# Altium footprint library Demo_BIT.PcbLib: 58 footprints (part 3 of 4)
Each footprint in its own frame and in the unit in brackets; x right, y up, seen from the top. Pads: shape width x height; smd on the part's side, far side on the other; paste and mask are expansions set on the pad; w line width, h text height; cw(c..) or ccw(c..) is an arc to the next point about the centre after c.
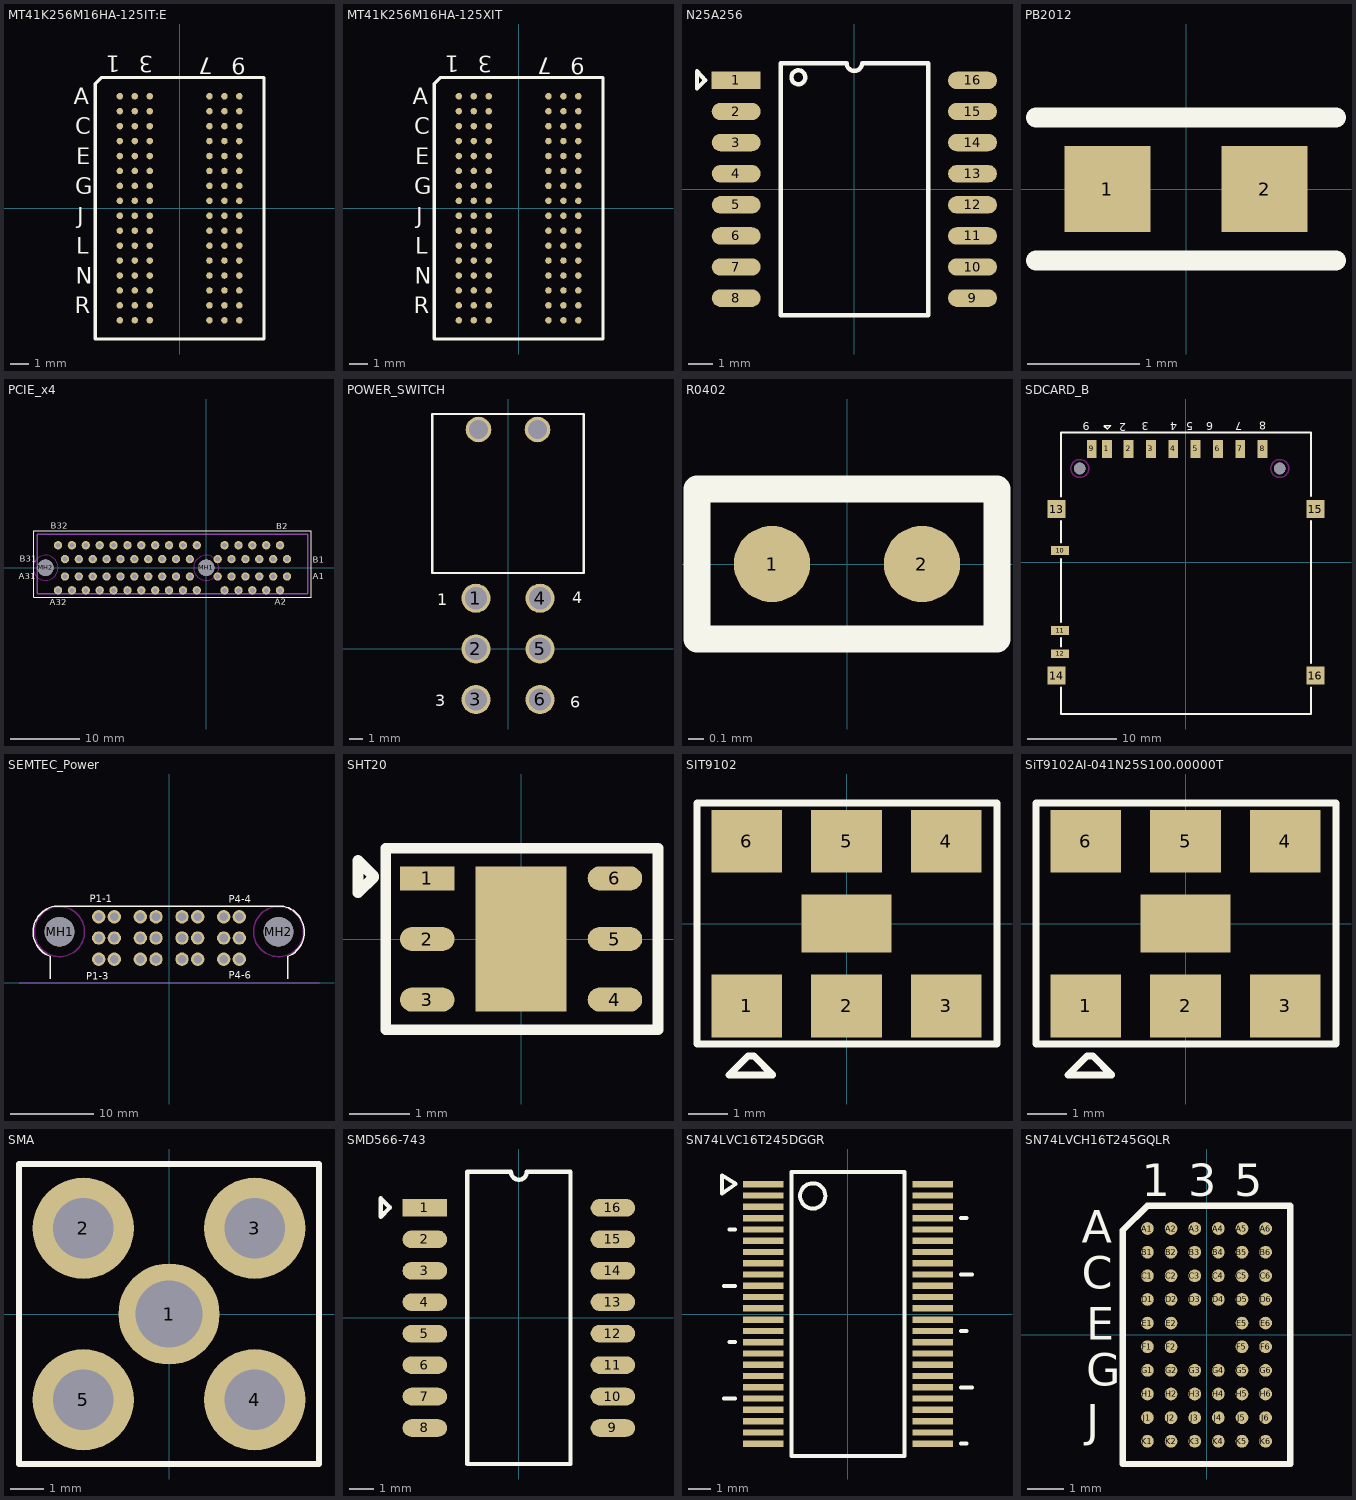
[diagram p2: the footprints below, top view; thin cyan lines are the x and y axes]

## MT41K256M16HA-125IT:E [mm]
height 1.1
pads (96):
  round 0.35 smd: A1(-3.2,6) A2(-2.4,6) A3(-1.6,6) A7(1.6,6) A8(2.4,6) A9(3.2,6) B1(-3.2,5.2) B2(-2.4,5.2) B3(-1.6,5.2) B7(1.6,5.2) B8(2.4,5.2) B9(3.2,5.2) C1(-3.2,4.4) C2(-2.4,4.4) C3(-1.6,4.4) C7(1.6,4.4) C8(2.4,4.4) C9(3.2,4.4) D1(-3.2,3.6) D2(-2.4,3.6) D3(-1.6,3.6) D7(1.6,3.6) D8(2.4,3.6) D9(3.2,3.6) E1(-3.2,2.8) E2(-2.4,2.8) E3(-1.6,2.8) E7(1.6,2.8) E8(2.4,2.8) E9(3.2,2.8) F1(-3.2,2) F2(-2.4,2) F3(-1.6,2) F7(1.6,2) F8(2.4,2) F9(3.2,2) G1(-3.2,1.2) G2(-2.4,1.2) G3(-1.6,1.2) G7(1.6,1.2) G8(2.4,1.2) G9(3.2,1.2) H1(-3.2,0.4) H2(-2.4,0.4) H3(-1.6,0.4) H7(1.6,0.4) H8(2.4,0.4) H9(3.2,0.4) J1(-3.2,-0.4) J2(-2.4,-0.4) J3(-1.6,-0.4) J7(1.6,-0.4) J8(2.4,-0.4) J9(3.2,-0.4) K1(-3.2,-1.2) K2(-2.4,-1.2) K3(-1.6,-1.2) K7(1.6,-1.2) K8(2.4,-1.2) K9(3.2,-1.2) L1(-3.2,-2) L2(-2.4,-2) L3(-1.6,-2) L7(1.6,-2) L8(2.4,-2) L9(3.2,-2) M1(-3.2,-2.8) M2(-2.4,-2.8) M3(-1.6,-2.8) M7(1.6,-2.8) M8(2.4,-2.8) M9(3.2,-2.8) N1(-3.2,-3.6) N2(-2.4,-3.6) N3(-1.6,-3.6) N7(1.6,-3.6) N8(2.4,-3.6) N9(3.2,-3.6) P1(-3.2,-4.4) P2(-2.4,-4.4) P3(-1.6,-4.4) P7(1.6,-4.4) P8(2.4,-4.4) P9(3.2,-4.4) R1(-3.2,-5.2) R2(-2.4,-5.2) R3(-1.6,-5.2) R7(1.6,-5.2) R8(2.4,-5.2) R9(3.2,-5.2) T1(-3.2,-6) T2(-2.4,-6) T3(-1.6,-6) T7(1.6,-6) T8(2.4,-6) T9(3.2,-6)
Top Overlay:
  lines w0.178: -4.521,-7 -4.521,6.679 -4.2,7 4.5,7 ; -4.5,-7 4.5,-7 ; 4.521,-7 4.521,7
  text "7" at 1.769,8.05 h0.89
  text "3" at -1.406,8.177 h0.89
  text "C" at -5.588,3.963 h0.89
  text "E" at -5.545,2.363 h0.89
  text "G" at -5.588,0.763 h0.89
  text "J" at -5.482,-0.837 h0.89
  text "L" at -5.524,-2.437 h0.89
  text "N" at -5.567,-4.037 h0.89
  text "R" at -5.609,-5.625 h0.89
  text "A" at -5.657,5.575 h0.89
  text "9" at 3.547,8.05 h0.89
  text "1" at -3.184,8.177 h0.89

## MT41K256M16HA-125XIT [mm]
height 1.1
pads (96):
  round 0.35 smd: A1(-3.2,6) A2(-2.4,6) A3(-1.6,6) A7(1.6,6) A8(2.4,6) A9(3.2,6) B1(-3.2,5.2) B2(-2.4,5.2) B3(-1.6,5.2) B7(1.6,5.2) B8(2.4,5.2) B9(3.2,5.2) C1(-3.2,4.4) C2(-2.4,4.4) C3(-1.6,4.4) C7(1.6,4.4) C8(2.4,4.4) C9(3.2,4.4) D1(-3.2,3.6) D2(-2.4,3.6) D3(-1.6,3.6) D7(1.6,3.6) D8(2.4,3.6) D9(3.2,3.6) E1(-3.2,2.8) E2(-2.4,2.8) E3(-1.6,2.8) E7(1.6,2.8) E8(2.4,2.8) E9(3.2,2.8) F1(-3.2,2) F2(-2.4,2) F3(-1.6,2) F7(1.6,2) F8(2.4,2) F9(3.2,2) G1(-3.2,1.2) G2(-2.4,1.2) G3(-1.6,1.2) G7(1.6,1.2) G8(2.4,1.2) G9(3.2,1.2) H1(-3.2,0.4) H2(-2.4,0.4) H3(-1.6,0.4) H7(1.6,0.4) H8(2.4,0.4) H9(3.2,0.4) J1(-3.2,-0.4) J2(-2.4,-0.4) J3(-1.6,-0.4) J7(1.6,-0.4) J8(2.4,-0.4) J9(3.2,-0.4) K1(-3.2,-1.2) K2(-2.4,-1.2) K3(-1.6,-1.2) K7(1.6,-1.2) K8(2.4,-1.2) K9(3.2,-1.2) L1(-3.2,-2) L2(-2.4,-2) L3(-1.6,-2) L7(1.6,-2) L8(2.4,-2) L9(3.2,-2) M1(-3.2,-2.8) M2(-2.4,-2.8) M3(-1.6,-2.8) M7(1.6,-2.8) M8(2.4,-2.8) M9(3.2,-2.8) N1(-3.2,-3.6) N2(-2.4,-3.6) N3(-1.6,-3.6) N7(1.6,-3.6) N8(2.4,-3.6) N9(3.2,-3.6) P1(-3.2,-4.4) P2(-2.4,-4.4) P3(-1.6,-4.4) P7(1.6,-4.4) P8(2.4,-4.4) P9(3.2,-4.4) R1(-3.2,-5.2) R2(-2.4,-5.2) R3(-1.6,-5.2) R7(1.6,-5.2) R8(2.4,-5.2) R9(3.2,-5.2) T1(-3.2,-6) T2(-2.4,-6) T3(-1.6,-6) T7(1.6,-6) T8(2.4,-6) T9(3.2,-6)
Top Overlay:
  lines w0.178: -4.521,-7 -4.521,6.679 -4.2,7 4.5,7 ; -4.5,-7 4.5,-7 ; 4.521,-7 4.521,7
  text "7" at 1.769,8.05 h0.89
  text "3" at -1.406,8.177 h0.89
  text "C" at -5.588,3.963 h0.89
  text "E" at -5.545,2.363 h0.89
  text "G" at -5.588,0.763 h0.89
  text "J" at -5.482,-0.837 h0.89
  text "L" at -5.524,-2.437 h0.89
  text "N" at -5.567,-4.037 h0.89
  text "R" at -5.609,-5.625 h0.89
  text "A" at -5.657,5.575 h0.89
  text "9" at 3.547,8.05 h0.89
  text "1" at -3.184,8.177 h0.89

## N25A256 [mm]
pads (16):
  rect 2x0.71 smd: 1(-4.825,4.445)
  oval 2x0.71 smd: 2(-4.825,3.175) 3(-4.825,1.905) 4(-4.825,0.635) 5(-4.825,-0.635) 6(-4.825,-1.905) 7(-4.825,-3.175) 8(-4.825,-4.445) 9(4.825,-4.445) 10(4.825,-3.175) 11(4.825,-1.905) 12(4.825,-0.635) 13(4.825,0.635) 14(4.825,1.905) 15(4.825,3.175) 16(4.825,4.445)
Top Overlay:
  circle w0.178: c-2.286,4.572 r0.284
  lines w0.178: -6.425,4.115 -6.095,4.445 -6.425,4.826 -6.425,4.115 ; -3.012,-5.15 3.012,-5.15 3.012,5.15 0.318,5.15 cw(c0,5.15) -0.318,5.15 -3.012,5.15 -3.012,-5.15

## PB2012 [mil]
pads (2):
  rect 30x30 smd: 1(-27.5,0) 2(27.5,0)
Top Overlay:
  lines w7: -52.5,-25 52.5,-25 ; -52.5,25 52.5,25

## PCIE_x4 [mm]
pads (66):
  round 1.2 hole 0.7 mask+0.075: A1(11.65,-1.25) A2(10.65,-3.25) A3(9.65,-1.25) A4(8.65,-3.25) A5(7.65,-1.25) A6(6.65,-3.25) A7(5.65,-1.25) A8(4.65,-3.25) A9(3.65,-1.25) A10(2.65,-3.25) A11(1.65,-1.25) A12(-1.35,-3.25) A13(-2.35,-1.25) A14(-3.35,-3.25) A15(-4.35,-1.25) A16(-5.35,-3.25) A17(-6.35,-1.25) A18(-7.35,-3.25) A19(-8.35,-1.25) A20(-9.35,-3.25) A21(-10.35,-1.25) A22(-11.35,-3.25) A23(-12.35,-1.25) A24(-13.35,-3.25) A25(-14.35,-1.25) A26(-15.35,-3.25) A27(-16.35,-1.25) A28(-17.35,-3.25) A29(-18.35,-1.25) A30(-19.35,-3.25) A31(-20.35,-1.25) A32(-21.35,-3.25) B1(11.65,1.25) B2(10.65,3.25) B3(9.65,1.25) B4(8.65,3.25) B5(7.65,1.25) B6(6.65,3.25) B7(5.65,1.25) B8(4.65,3.25) B9(3.65,1.25) B10(2.65,3.25) B11(1.65,1.25) B12(-1.35,3.25) B13(-2.35,1.25) B14(-3.35,3.25) B15(-4.35,1.25) B16(-5.35,3.25) B17(-6.35,1.25) B18(-7.35,3.25) B19(-8.35,1.25) B20(-9.35,3.25) B21(-10.35,1.25) B22(-11.35,3.25) B23(-12.35,1.25) B24(-13.35,3.25) B25(-14.35,1.25) B26(-15.35,3.25) B27(-16.35,1.25) B28(-17.35,3.25) B29(-18.35,1.25) B30(-19.35,3.25) B31(-20.35,1.25) B32(-21.35,3.25)
  round 2.35 hole 2.35 unplated: MH1(0,0) MH2(-23.15,0)
Top Overlay:
  lines w0.178: -24.85,-4.25 -24.85,5.35 15.15,5.35 15.15,-4.25 -24.85,-4.25
  text "A32" at -22.53,-5.41 h0.89
  text "A31" at -26.975,-1.626 h0.89
  text "B31" at -26.873,0.838 h0.89
  text "B32" at -22.377,5.613 h0.89
  text "B1" at 15.367,0.762 h0.89
  text "A1" at 15.367,-1.676 h0.89
  text "A2" at 9.855,-5.334 h0.89
  text "B2" at 10.084,5.588 h0.89
Keep-Out Layer:
  circle w0.178: c-23.15,0 r1.8
  circle w0.178: c0,0 r1.8
Mechanical 13:
  lines w0.254: -24.35,-3.75 -24.35,4.85 14.65,4.85 14.65,-3.75 -24.35,-3.75

## POWER_SWITCH [mil]
pads (8):
  round 86 hole 66: 1(-95,150) 2(-95,0) 3(-95,-150) 4(95,150) 5(95,0) 6(95,-150)
  round 76 hole 56: ""(-87.5,650) ""(87.5,650)
Top Overlay:
  lines w7: -225,225 225,225 225,696 -225,696 -225,225
  text "1" at -210,130 h35
  text "3" at -215,-170 h35
  text "4" at 190,135 h35
  text "6" at 185,-175 h35

## R0402 [mil]
pads (2):
  round 20 smd: 1(-19.68,0) 2(19.68,0)
Top Overlay:
  lines w7: -39.37,-19.68 39.37,-19.68 39.37,19.68 -39.37,19.68 -39.37,-19.68

## SDCARD_B [mm]
pads (18):
  rect 1.1x2 smd: 1(-8.85,12.7) 2(-6.425,12.7) 3(-3.925,12.7) 4(-1.425,12.7) 5(1.075,12.7) 6(3.575,12.7) 7(6.075,12.7) 8(8.575,12.7) 9(-10.55,12.7)
  rect 2x1 smd: 10(-14.1,1.3) 11(-14.1,-7.65) 12(-14.1,-10.25)
  rect 2x2 smd: 13(-14.5,5.95) 14(-14.5,-12.7) 15(14.5,5.95) 16(14.5,-12.7)
  round 1.3 hole 1.3 unplated: ""(-11.9,10.5) ""(10.5,10.5)
Top Overlay:
  lines w0.178: -14,-13.995 -14,-17 14,-17 14,-13.995 ; -14,-9.474 -14,-8.458 ; -14,-6.706 -14,0.381 ; -14,2.159 -14,4.623 ; -14,7.341 -14,14.529 14,14.529 14,7.417 ; 14,-11.328 14,4.648 ; -9.144,15.24 -9.144,15.265 -8.458,15.265 -8.814,14.91 -9.144,15.24
  text "2" at -6.702,15.559 h0.89
  text "9" at -10.766,15.686 h0.89
  text "8" at 8.97,15.711 h0.89
  text "3" at -4.162,15.686 h0.89
  text "4" at -0.987,15.686 h0.89
  text "5" at 0.791,15.686 h0.89
  text "6" at 3.077,15.686 h0.89
  text "7" at 6.303,15.686 h0.89
Keep-Out Layer:
  circle w0.178: c-11.9,10.5 r1
  circle w0.178: c10.5,10.5 r1

## SEMTEC_Power [mm]
height 1.1
pads (26):
  round 3.56 hole 3.56 unplated: MH1(-13.14,6.15) MH2(13.14,6.15)
  round 1.6 hole 1.04: P1-1(-8.44,7.93) P1-2(-8.44,5.39) P1-3(-8.44,2.85) P1-4(-6.56,7.93) P1-5(-6.56,5.39) P1-6(-6.56,2.85) P2-1(-3.44,7.93) P2-2(-3.44,5.39) P2-3(-3.44,2.85) P2-4(-1.56,7.93) P2-5(-1.56,5.39) P2-6(-1.56,2.85) P3-1(1.56,7.93) P3-2(1.56,5.39) P3-3(1.56,2.85) P3-4(3.44,7.93) P3-5(3.44,5.39) P3-6(3.44,2.85) P4-1(6.56,7.93) P4-2(6.56,5.39) P4-3(6.56,2.85) P4-4(8.44,7.93) P4-5(8.44,5.39) P4-6(8.44,2.85)
Top Overlay:
  lines w0.178: -14.275,0.5 -14.275,3.18 cw(c-13.166,6.115) -13.775,9.193 ; -13.775,9.193 13.775,9.193 ; 13.775,9.193 cw(c13.068,6.107) 14.275,3.18 14.275,0.5
  text "P1-1" at -9.5,9.652 h0.89
  text "P4-4" at 7.188,9.627 h0.89
  text "P1-3" at -9.906,0.406 h0.89
  text "P4-6" at 7.163,0.508 h0.89
Keep-Out Layer:
  circle w0.178: c13.14,6.15 r3
  circle w0.178: c-13.14,6.15 r3
Mechanical 16:
  lines w0.01: -18,0 18,0

## SHT20 [mm]
pads (7):
  rect 0.9x0.4 smd: 1(-1.55,1)
  oval 0.9x0.4 smd: 2(-1.55,0) 3(-1.55,-1) 4(1.55,-1) 5(1.55,0) 6(1.55,1)
  rect 1.5x2.4 smd: ""(0,0)
Top Overlay:
  lines w0.178: -2.438,1.016 -2.692,0.762 -2.692,1.295 -2.438,1.041 ; -2.235,-1.5 -2.235,1.5 2.261,1.5 2.261,-1.5 -2.235,-1.5

## SIT9102 [mm]
pads (7):
  rect 1.8x1.6 smd: 1(-2.54,-2.1) 2(0,-2.1) 3(2.54,-2.1) 4(2.54,2.1) 5(0,2.1) 6(-2.54,2.1)
  rect 2.3x1.47 smd: ""(0,0)
Top Overlay:
  lines w0.178: -3.81,-3.074 -3.81,3.074 3.835,3.074 3.835,-3.074 -3.81,-3.074 ; -2.997,-3.861 -2.515,-3.378 -2.362,-3.378 -1.88,-3.861 -2.997,-3.861

## SiT9102AI-041N25S100.00000T [mm]
pads (7):
  rect 1.8x1.6 smd: 1(-2.54,-2.1) 2(0,-2.1) 3(2.54,-2.1) 4(2.54,2.1) 5(0,2.1) 6(-2.54,2.1)
  rect 2.3x1.47 smd: ""(0,0)
Top Overlay:
  lines w0.178: -3.81,-3.074 -3.81,3.074 3.835,3.074 3.835,-3.074 -3.81,-3.074 ; -2.997,-3.861 -2.515,-3.378 -2.362,-3.378 -1.88,-3.861 -2.997,-3.861

## SMA [mm]
pads (5):
  round 3 hole 2: 1(0,0)
  round 3 hole 1.8: 2(-2.54,2.54) 3(2.54,2.54) 4(2.54,-2.54) 5(-2.54,-2.54)
Top Overlay:
  lines w0.178: -4.445,-4.445 -4.445,4.445 4.445,4.445 4.445,-4.445 -4.445,-4.445

## SMD566-743 [mm]
pads (16):
  rect 1.8x0.71 smd: 1(-3.8,4.445)
  oval 1.8x0.71 smd: 2(-3.8,3.175) 3(-3.8,1.905) 4(-3.8,0.635) 5(-3.8,-0.635) 6(-3.8,-1.905) 7(-3.8,-3.175) 8(-3.8,-4.445) 9(3.8,-4.445) 10(3.8,-3.175) 11(3.8,-1.905) 12(3.8,-0.635) 13(3.8,0.635) 14(3.8,1.905) 15(3.8,3.175) 16(3.8,4.445)
Top Overlay:
  lines w0.178: -5.578,4.089 -5.578,4.826 -5.222,4.47 -5.222,4.445 -5.578,4.089 ; -2.087,-5.9 2.087,-5.9 2.087,5.9 0.318,5.9 cw(c0,5.9) -0.317,5.9 -2.087,5.9 -2.087,-5.9

## SN74LVC16T245DGGR [mm]
pads (48):
  rect 1.8x0.279 smd: 1(-3.75,5.75) 2(-3.75,5.25) 3(-3.75,4.75) 4(-3.75,4.25) 5(-3.75,3.75) 6(-3.75,3.25) 7(-3.75,2.75) 8(-3.75,2.25) 9(-3.75,1.75) 10(-3.75,1.25) 11(-3.75,0.75) 12(-3.75,0.25) 13(-3.75,-0.25) 14(-3.75,-0.75) 15(-3.75,-1.25) 16(-3.75,-1.75) 17(-3.75,-2.25) 18(-3.75,-2.75) 19(-3.75,-3.25) 20(-3.75,-3.75) 21(-3.75,-4.25) 22(-3.75,-4.75) 23(-3.75,-5.25) 24(-3.75,-5.75) 25(3.75,-5.75) 26(3.75,-5.25) 27(3.75,-4.75) 28(3.75,-4.25) 29(3.75,-3.75) 30(3.75,-3.25) 31(3.75,-2.75) 32(3.75,-2.25) 33(3.75,-1.75) 34(3.75,-1.25) 35(3.75,-0.75) 36(3.75,-0.25) 37(3.75,0.25) 38(3.75,0.75) 39(3.75,1.25) 40(3.75,1.75) 41(3.75,2.25) 42(3.75,2.75) 43(3.75,3.25) 44(3.75,3.75) 45(3.75,4.25) 46(3.75,4.75) 47(3.75,5.25) 48(3.75,5.75)
Top Overlay:
  circle w0.178: c-1.562,5.234 r0.559
  lines w0.178: -5.5,-3.75 -5,-3.75 ; -5.5,1.25 -5,1.25 ; -5.25,-1.25 -5,-1.25 ; -5.25,3.75 -5,3.75 ; 5,-5.75 5.25,-5.75 ; 5,-3.25 5.5,-3.25 ; 5,-0.75 5.25,-0.75 ; 5,1.75 5.5,1.75 ; 5,4.25 5.25,4.25 ; -5.588,5.334 -4.978,5.766 -5.588,6.147 -5.588,5.334 ; -2.5,-6.3 2.5,-6.3 2.5,6.3 -2.5,6.3 -2.5,-6.3

## SN74LVCH16T245GQLR [mm]
pads (56):
  round 0.35 smd: A1(-1.625,2.925) A2(-0.975,2.925) A3(-0.325,2.925) A4(0.325,2.925) A5(0.975,2.925) A6(1.625,2.925) B1(-1.625,2.275) B2(-0.975,2.275) B3(-0.325,2.275) B4(0.325,2.275) B5(0.975,2.275) B6(1.625,2.275) C1(-1.625,1.625) C2(-0.975,1.625) C3(-0.325,1.625) C4(0.325,1.625) C5(0.975,1.625) C6(1.625,1.625) D1(-1.625,0.975) D2(-0.975,0.975) D3(-0.325,0.975) D4(0.325,0.975) D5(0.975,0.975) D6(1.625,0.975) E1(-1.625,0.325) E2(-0.975,0.325) E5(0.975,0.325) E6(1.625,0.325) F1(-1.625,-0.325) F2(-0.975,-0.325) F5(0.975,-0.325) F6(1.625,-0.325) G1(-1.625,-0.975) G2(-0.975,-0.975) G3(-0.325,-0.975) G4(0.325,-0.975) G5(0.975,-0.975) G6(1.625,-0.975) H1(-1.625,-1.625) H2(-0.975,-1.625) H3(-0.325,-1.625) H4(0.325,-1.625) H5(0.975,-1.625) H6(1.625,-1.625) J1(-1.625,-2.275) J2(-0.975,-2.275) J3(-0.325,-2.275) J4(0.325,-2.275) J5(0.975,-2.275) J6(1.625,-2.275) K1(-1.625,-2.925) K2(-0.975,-2.925) K3(-0.325,-2.925) K4(0.325,-2.925) K5(0.975,-2.925) K6(1.625,-2.925)
Top Overlay:
  lines w0.178: -2.3,-3.55 2.3,-3.55 2.3,3.55 -1.625,3.55 -2.3,2.875 -2.3,-3.55
  text "A" at -3.429,2.54 h0.89
  text "C" at -3.429,1.27 h0.89
  text "E" at -3.302,-0.127 h0.89
  text "G" at -3.302,-1.397 h0.89
  text "J" at -3.302,-2.794 h0.89
  text "1" at -1.778,3.81 h0.89
  text "3" at -0.508,3.81 h0.89
  text "5" at 0.762,3.81 h0.89